# EAGLE library part 66226-008LF (library FCI_By_element14_Batch_1)
FFC/FPC CONNECTOR, PLUG, 8POS, 1ROW
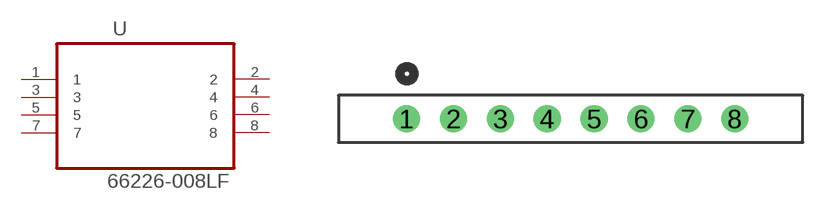
[diagram p15: symbol with the pads of FCI_66226-008LF; footprint FCI_66226-008LF]

Designator prefix U

## 66226-008LF (MPN: 66226-008LF; OC_FARNELL: -; OC_NEWARK: 75K3538; PACKAGE: CONNECTOR-8POS; SUPPLIER: FCI)  [FCI_66226-008LF]
1  1  pas
2  2  pas
3  3  pas
4  4  pas
5  5  pas
6  6  pas
7  7  pas
8  8  pas

## Footprint FCI_66226-008LF (pad centres in mm)
drill 0.965: 1 0,0; 2 2.54,0; 3 5.08,0; 4 7.62,0; 5 10.16,0; 6 12.7,0; 7 15.24,0; 8 17.78,0